# Altium integrated library NSC Switcher.IntLib: 2027 symbols (part 51 of 54)
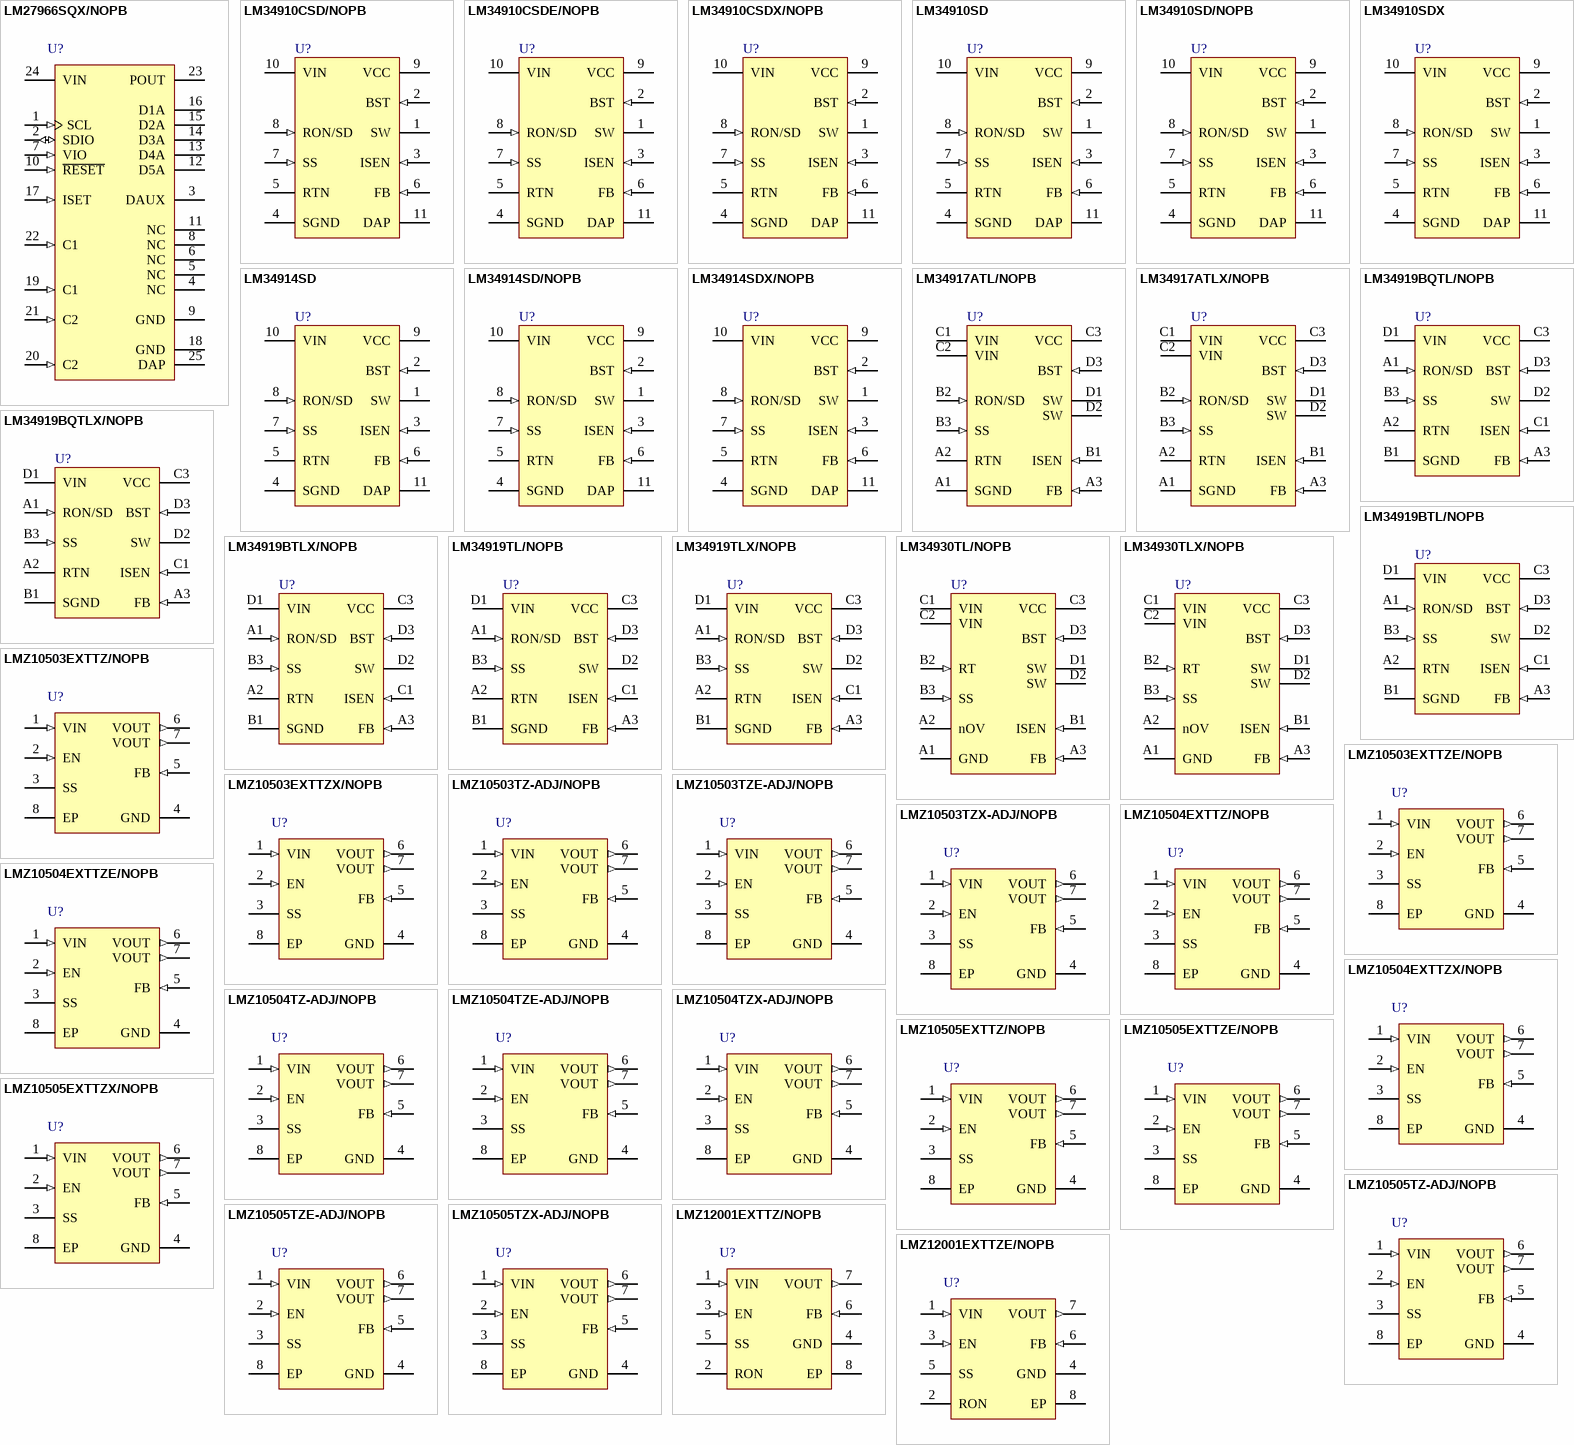
[diagram p113: symbols LM27966SQX/NOPB to LMZ12001EXTTZE/NOPB]

## LMZ10505EXTTZX/NOPB
designator U?
5A SIMPLE SWITCHER® Power Module with 5.5V Maximum Input Voltage for Military and Rugged Applications, 7 pin TO-PMOD; PartNumber: LMZ10505EXTTZX/NOPB; Manufacturer: National Semiconductor; PackageTopMarking: NSUZXYTTE#*LMZ10505*EXT; PowerWise: Y; Published: 16-Nov-2010; DatasheetVersion: Jul-2010; PackageVersion: revC, 2009; PackageReference: TZA07A; Publisher: Altium Limited; PackageDescription: TO-PMOD-7, 10.16 x 13.77 x 4.57 mm Body, 7 Lead, 1.27mm Pitch, Surface Mount; Supplier 1: Digi-Key; Supplier Part Number 1: LMZ10505EXTTZX/NOPB-ND; RoHS: Y; PinCount: 7; CompType: Switcher; ComponentLink1Description: LMZ10505EXT Datasheet; ComponentLink1URL: http://www.national.com/ds/LM/LMZ10505EXT.pdf; ComponentLink2Description: LMZ10505EXT Web Page; ComponentLink2URL: http://www.national.com/pf/LM/LMZ10505EXT.html; ComponentLink3Description: TZA07A Package Page; ComponentLink3URL: http://www.national.com/packaging/folders/tza07a.html
footprint TZA07A_V (D2-PAK, 8-Leads, Body 9.9x10.2mm, Pitch 1.27mm, Lead Span 13.8mm, NSC Recommended)
pins: 1 VIN (in), 2 EN (in), 3 SS, 4 GND (power), 5 FB (in), 6 VOUT (out), 7 VOUT (out), 8 EP

## LMZ10505TZ-ADJ/NOPB
designator U?
5A SIMPLE SWITCHER® Power Module with 5.5V Maximum Input Voltage, 7 pin TO-PMOD; PartNumber: LMZ10505TZ-ADJ/NOPB; Manufacturer: National Semiconductor; PackageTopMarking: NSUZXYTTE#*LMZ10505*TZ-ADJ; PowerWise: Y; Published: 16-Nov-2010; DatasheetVersion: Jun-2010; PackageVersion: revC, 2009; PackageReference: TZA07A; Publisher: Altium Limited; PackageDescription: TO-PMOD-7, 10.16 x 13.77 x 4.57 mm Body, 7 Lead, 1.27mm Pitch, Surface Mount; Supplier 1: Digi-Key; Supplier Part Number 1: LMZ10505TZ-ADJTR-ND; Supplier 2: Digi-Key; Supplier Part Number 2: LMZ10505TZ-ADJCT-ND; Supplier 3: Digi-Key; Supplier Part Number 3: LMZ10505TZ-ADJDKR-ND; Supplier 4: Farnell; Supplier Part Number 4: 1800192; RoHS: Y; PinCount: 7; CompType: Switcher; ComponentLink1Description: LMZ10505 Datasheet; ComponentLink1URL: http://www.national.com/ds/LM/LMZ10505.pdf; ComponentLink2Description: LMZ10505 Web Page; ComponentLink2URL: http://www.national.com/pf/LM/LMZ10505.html; ComponentLink3Description: TZA07A Package Page; ComponentLink3URL: http://www.national.com/packaging/folders/tza07a.html
footprint TZA07A_V (D2-PAK, 8-Leads, Body 9.9x10.2mm, Pitch 1.27mm, Lead Span 13.8mm, NSC Recommended)
pins: 1 VIN (in), 2 EN (in), 3 SS, 4 GND (power), 5 FB (in), 6 VOUT (out), 7 VOUT (out), 8 EP

## LMZ10505TZE-ADJ/NOPB
designator U?
5A SIMPLE SWITCHER® Power Module with 5.5V Maximum Input Voltage, 7 pin TO-PMOD; PartNumber: LMZ10505TZE-ADJ/NOPB; Manufacturer: National Semiconductor; PackageTopMarking: NSUZXYTTE#*LMZ10505*TZ-ADJ; PowerWise: N; Published: 16-Nov-2010; DatasheetVersion: Jun-2010; PackageVersion: revC, 2009; PackageReference: TZA07A; Publisher: Altium Limited; PackageDescription: TO-PMOD-7, 10.16 x 13.77 x 4.57 mm Body, 7 Lead, 1.27mm Pitch, Surface Mount; Supplier 1: Digi-Key; Supplier Part Number 1: LMZ10505TZE-ADJ/NOPB-ND; RoHS: Y; PinCount: 7; CompType: Switcher; ComponentLink1Description: LMZ10505 Datasheet; ComponentLink1URL: http://www.national.com/ds/LM/LMZ10505.pdf; ComponentLink2Description: LMZ10505 Web Page; ComponentLink2URL: http://www.national.com/pf/LM/LMZ10505.html; ComponentLink3Description: TZA07A Package Page; ComponentLink3URL: http://www.national.com/packaging/folders/tza07a.html
footprint TZA07A_V (D2-PAK, 8-Leads, Body 9.9x10.2mm, Pitch 1.27mm, Lead Span 13.8mm, NSC Recommended)
pins: 1 VIN (in), 2 EN (in), 3 SS, 4 GND (power), 5 FB (in), 6 VOUT (out), 7 VOUT (out), 8 EP

## LMZ10505TZX-ADJ/NOPB
designator U?
5A SIMPLE SWITCHER® Power Module with 5.5V Maximum Input Voltage, 7 pin TO-PMOD; PartNumber: LMZ10505TZX-ADJ/NOPB; Manufacturer: National Semiconductor; PackageTopMarking: NSUZXYTTE#*LMZ10505*TZ-ADJ; PowerWise: Y; Published: 16-Nov-2010; DatasheetVersion: Jun-2010; PackageVersion: revC, 2009; PackageReference: TZA07A; Publisher: Altium Limited; PackageDescription: TO-PMOD-7, 10.16 x 13.77 x 4.57 mm Body, 7 Lead, 1.27mm Pitch, Surface Mount; Supplier 1: Digi-Key; Supplier Part Number 1: LMZ10505TZX-ADJ-ND; RoHS: Y; PinCount: 7; CompType: Switcher; ComponentLink1Description: LMZ10505 Datasheet; ComponentLink1URL: http://www.national.com/ds/LM/LMZ10505.pdf; ComponentLink2Description: LMZ10505 Web Page; ComponentLink2URL: http://www.national.com/pf/LM/LMZ10505.html; ComponentLink3Description: TZA07A Package Page; ComponentLink3URL: http://www.national.com/packaging/folders/tza07a.html
footprint TZA07A_V (D2-PAK, 8-Leads, Body 9.9x10.2mm, Pitch 1.27mm, Lead Span 13.8mm, NSC Recommended)
pins: 1 VIN (in), 2 EN (in), 3 SS, 4 GND (power), 5 FB (in), 6 VOUT (out), 7 VOUT (out), 8 EP

## LMZ12001EXTTZ/NOPB
designator U?
1A SIMPLE SWITCHER® Power Module with 20V Maximum Input Voltage for Military and Rugged Applications, 7 pin TO-PMOD; PartNumber: LMZ12001EXTTZ/NOPB; Manufacturer: National Semiconductor; PackageTopMarking: NSUZXYTTE#*LMZ12001*EXT; PowerWise: Y; Published: 16-Nov-2010; DatasheetVersion: Aug-2010; PackageVersion: revC, 2009; PackageReference: TZA07A; Publisher: Altium Limited; PackageDescription: TO-PMOD-7, 10.16 x 13.77 x 4.57 mm Body, 7 Lead, 1.27mm Pitch, Surface Mount; Supplier 1: Digi-Key; Supplier Part Number 1: LMZ12001EXTTZ/NOPBTR-ND; Supplier 2: Digi-Key; Supplier Part Number 2: LMZ12001EXTTZ/NOPBCT-ND; Supplier 3: Digi-Key; Supplier Part Number 3: LMZ12001EXTTZ/NOPBDKR-ND; RoHS: Y; PinCount: 7; CompType: Switcher; ComponentLink1Description: LMZ12001EXT Datasheet; ComponentLink1URL: http://www.national.com/ds/LM/LMZ12001EXT.pdf; ComponentLink2Description: LMZ12001EXT Web Page; ComponentLink2URL: http://www.national.com/pf/LM/LMZ12001EXT.html; ComponentLink3Description: TZA07A Package Page; ComponentLink3URL: http://www.national.com/packaging/folders/tza07a.html
footprint TZA07A_V (D2-PAK, 8-Leads, Body 9.9x10.2mm, Pitch 1.27mm, Lead Span 13.8mm, NSC Recommended)
pins: 1 VIN (in), 2 RON, 3 EN (in), 4 GND (power), 5 SS, 6 FB (in), 7 VOUT (out), 8 EP

## LMZ12001EXTTZE/NOPB
designator U?
1A SIMPLE SWITCHER® Power Module with 20V Maximum Input Voltage for Military and Rugged Applications, 7 pin TO-PMOD; PartNumber: LMZ12001EXTTZE/NOPB; Manufacturer: National Semiconductor; PackageTopMarking: NSUZXYTTE#*LMZ12001*EXT; PowerWise: Y; Published: 16-Nov-2010; DatasheetVersion: Aug-2010; PackageVersion: revC, 2009; PackageReference: TZA07A; Publisher: Altium Limited; PackageDescription: TO-PMOD-7, 10.16 x 13.77 x 4.57 mm Body, 7 Lead, 1.27mm Pitch, Surface Mount; Supplier 1: Digi-Key; Supplier Part Number 1: LMZ12001EXTTZE/NOPB-ND; RoHS: Y; PinCount: 7; CompType: Switcher; ComponentLink1Description: LMZ12001EXT Datasheet; ComponentLink1URL: http://www.national.com/ds/LM/LMZ12001EXT.pdf; ComponentLink2Description: LMZ12001EXT Web Page; ComponentLink2URL: http://www.national.com/pf/LM/LMZ12001EXT.html; ComponentLink3Description: TZA07A Package Page; ComponentLink3URL: http://www.national.com/packaging/folders/tza07a.html
footprint TZA07A_V (D2-PAK, 8-Leads, Body 9.9x10.2mm, Pitch 1.27mm, Lead Span 13.8mm, NSC Recommended)
pins: 1 VIN (in), 2 RON, 3 EN (in), 4 GND (power), 5 SS, 6 FB (in), 7 VOUT (out), 8 EP

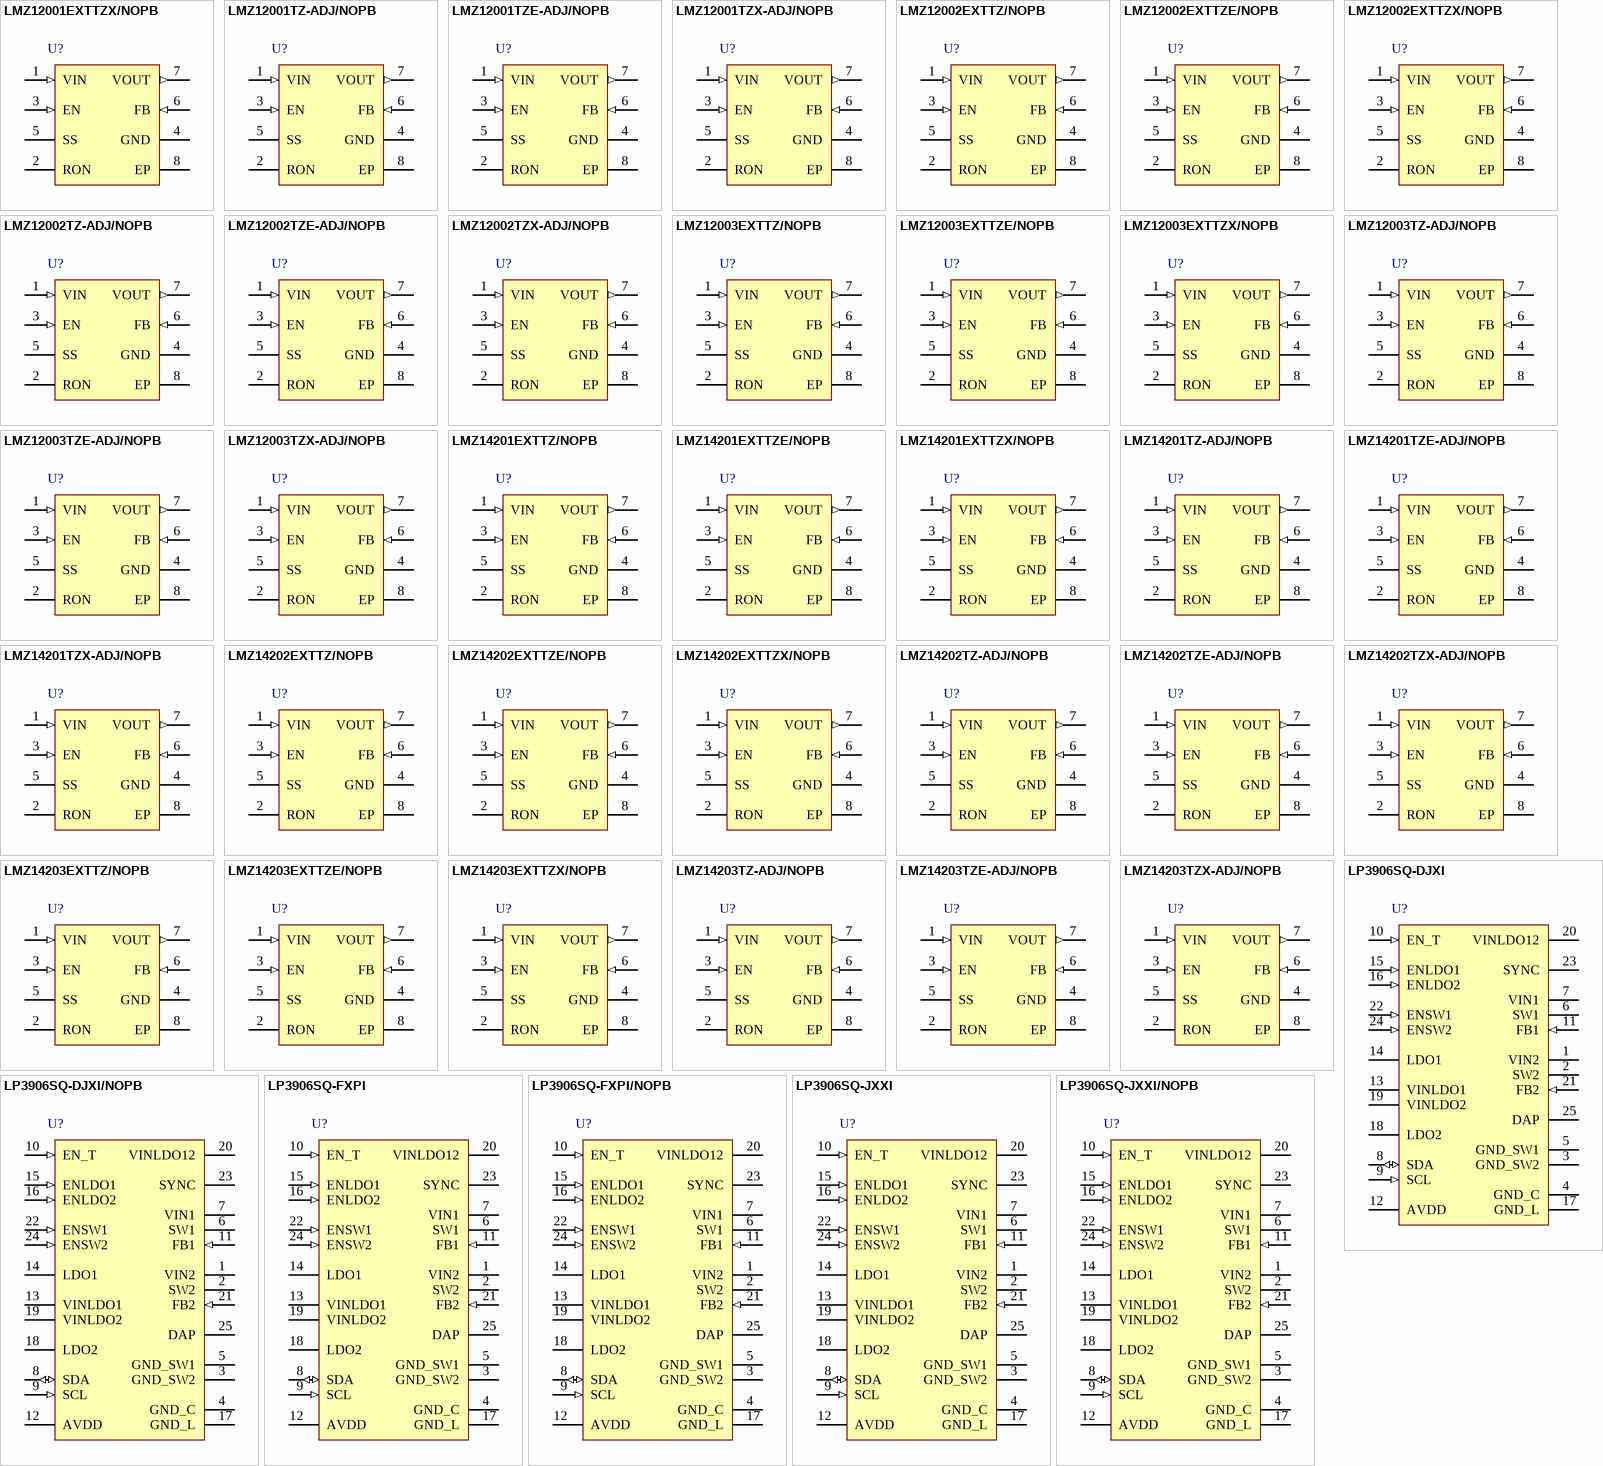
[diagram p58: symbols LMZ12001EXTTZX/NOPB to LP3906SQ-JXXI/NOPB]

## LMZ12001EXTTZX/NOPB
designator U?
1A SIMPLE SWITCHER® Power Module with 20V Maximum Input Voltage for Military and Rugged Applications, 7 pin TO-PMOD; PartNumber: LMZ12001EXTTZX/NOPB; Manufacturer: National Semiconductor; PackageTopMarking: NSUZXYTTE#*LMZ12001*EXT; PowerWise: Y; Published: 16-Nov-2010; DatasheetVersion: Aug-2010; PackageVersion: revC, 2009; PackageReference: TZA07A; Publisher: Altium Limited; PackageDescription: TO-PMOD-7, 10.16 x 13.77 x 4.57 mm Body, 7 Lead, 1.27mm Pitch, Surface Mount; Supplier 1: Digi-Key; Supplier Part Number 1: LMZ12001EXTTZX/NOPB-ND; RoHS: Y; PinCount: 7; CompType: Switcher; ComponentLink1Description: LMZ12001EXT Datasheet; ComponentLink1URL: http://www.national.com/ds/LM/LMZ12001EXT.pdf; ComponentLink2Description: LMZ12001EXT Web Page; ComponentLink2URL: http://www.national.com/pf/LM/LMZ12001EXT.html; ComponentLink3Description: TZA07A Package Page; ComponentLink3URL: http://www.national.com/packaging/folders/tza07a.html
footprint TZA07A_V (D2-PAK, 8-Leads, Body 9.9x10.2mm, Pitch 1.27mm, Lead Span 13.8mm, NSC Recommended)
pins: 1 VIN (in), 2 RON, 3 EN (in), 4 GND (power), 5 SS, 6 FB (in), 7 VOUT (out), 8 EP

## LMZ12001TZ-ADJ/NOPB
designator U?
1A SIMPLE SWITCHER® Power Module with 20V Maximum Input Voltage, 7 pin TO-PMOD; PartNumber: LMZ12001TZ-ADJ/NOPB; Manufacturer: National Semiconductor; PackageTopMarking: NSUZXYTTE#*LMZ12001*TZ-ADJ; PowerWise: Y; Published: 16-Nov-2010; DatasheetVersion: Jun-2010; PackageVersion: revC, 2009; PackageReference: TZA07A; Publisher: Altium Limited; PackageDescription: TO-PMOD-7, 10.16 x 13.77 x 4.57 mm Body, 7 Lead, 1.27mm Pitch, Surface Mount; Supplier 1: Digi-Key; Supplier Part Number 1: LMZ12001TZ-ADJTR-ND; Supplier 2: Digi-Key; Supplier Part Number 2: LMZ12001TZ-ADJCT-ND; Supplier 3: Digi-Key; Supplier Part Number 3: LMZ12001TZ-ADJDKR-ND; RoHS: Y; PinCount: 7; CompType: Switcher; ComponentLink1Description: LMZ12001 Datasheet; ComponentLink1URL: http://www.national.com/ds/LM/LMZ12001.pdf; ComponentLink2Description: LMZ12001 Web Page; ComponentLink2URL: http://www.national.com/pf/LM/LMZ12001.html; ComponentLink3Description: TZA07A Package Page; ComponentLink3URL: http://www.national.com/packaging/folders/tza07a.html
footprint TZA07A_V (D2-PAK, 8-Leads, Body 9.9x10.2mm, Pitch 1.27mm, Lead Span 13.8mm, NSC Recommended)
pins: 1 VIN (in), 2 RON, 3 EN (in), 4 GND (power), 5 SS, 6 FB (in), 7 VOUT (out), 8 EP

## LMZ12001TZE-ADJ/NOPB
designator U?
1A SIMPLE SWITCHER® Power Module with 20V Maximum Input Voltage, 7 pin TO-PMOD; PartNumber: LMZ12001TZE-ADJ/NOPB; Manufacturer: National Semiconductor; PackageTopMarking: NSUZXYTTE#*LMZ12001*TZ-ADJ; PowerWise: N; Published: 16-Nov-2010; DatasheetVersion: Jun-2010; PackageVersion: revC, 2009; PackageReference: TZA07A; Publisher: Altium Limited; PackageDescription: TO-PMOD-7, 10.16 x 13.77 x 4.57 mm Body, 7 Lead, 1.27mm Pitch, Surface Mount; Supplier 1: Digi-Key; Supplier Part Number 1: LMZ12001TZE-ADJ/NOPB-ND; Supplier 2: Farnell; Supplier Part Number 2: 1821760; RoHS: Y; PinCount: 7; CompType: Switcher; ComponentLink1Description: LMZ12001 Datasheet; ComponentLink1URL: http://www.national.com/ds/LM/LMZ12001.pdf; ComponentLink2Description: LMZ12001 Web Page; ComponentLink2URL: http://www.national.com/pf/LM/LMZ12001.html; ComponentLink3Description: TZA07A Package Page; ComponentLink3URL: http://www.national.com/packaging/folders/tza07a.html
footprint TZA07A_V (D2-PAK, 8-Leads, Body 9.9x10.2mm, Pitch 1.27mm, Lead Span 13.8mm, NSC Recommended)
pins: 1 VIN (in), 2 RON, 3 EN (in), 4 GND (power), 5 SS, 6 FB (in), 7 VOUT (out), 8 EP

## LMZ12001TZX-ADJ/NOPB
designator U?
1A SIMPLE SWITCHER® Power Module with 20V Maximum Input Voltage, 7 pin TO-PMOD; PartNumber: LMZ12001TZX-ADJ/NOPB; Manufacturer: National Semiconductor; PackageTopMarking: NSUZXYTTE#*LMZ12001*TZ-ADJ; PowerWise: Y; Published: 16-Nov-2010; DatasheetVersion: Jun-2010; PackageVersion: revC, 2009; PackageReference: TZA07A; Publisher: Altium Limited; PackageDescription: TO-PMOD-7, 10.16 x 13.77 x 4.57 mm Body, 7 Lead, 1.27mm Pitch, Surface Mount; Supplier 1: Digi-Key; Supplier Part Number 1: LMZ12001TZX-ADJ-ND; RoHS: Y; PinCount: 7; CompType: Switcher; ComponentLink1Description: LMZ12001 Datasheet; ComponentLink1URL: http://www.national.com/ds/LM/LMZ12001.pdf; ComponentLink2Description: LMZ12001 Web Page; ComponentLink2URL: http://www.national.com/pf/LM/LMZ12001.html; ComponentLink3Description: TZA07A Package Page; ComponentLink3URL: http://www.national.com/packaging/folders/tza07a.html
footprint TZA07A_V (D2-PAK, 8-Leads, Body 9.9x10.2mm, Pitch 1.27mm, Lead Span 13.8mm, NSC Recommended)
pins: 1 VIN (in), 2 RON, 3 EN (in), 4 GND (power), 5 SS, 6 FB (in), 7 VOUT (out), 8 EP

## LMZ12002EXTTZ/NOPB
designator U?
2A SIMPLE SWITCHER® Power Module with 20V Maximum Input Voltage for Military and Rugged Applications, 7 pin TO-PMOD; PartNumber: LMZ12002EXTTZ/NOPB; Manufacturer: National Semiconductor; PackageTopMarking: NSUZXYTTE#*LMZ12002*EXT; PowerWise: Y; Published: 16-Nov-2010; DatasheetVersion: Aug-2010; PackageVersion: revC, 2009; PackageReference: TZA07A; Publisher: Altium Limited; PackageDescription: TO-PMOD-7, 10.16 x 13.77 x 4.57 mm Body, 7 Lead, 1.27mm Pitch, Surface Mount; Supplier 1: Digi-Key; Supplier Part Number 1: LMZ12002EXTTZ/NOPBTR-ND; Supplier 2: Digi-Key; Supplier Part Number 2: LMZ12002EXTTZ/NOPBCT-ND; Supplier 3: Digi-Key; Supplier Part Number 3: LMZ12002EXTTZ/NOPBDKR-ND; RoHS: Y; PinCount: 7; CompType: Switcher; ComponentLink1Description: LMZ12002EXT Datasheet; ComponentLink1URL: http://www.national.com/ds/LM/LMZ12002EXT.pdf; ComponentLink2Description: LMZ12002EXT Web Page; ComponentLink2URL: http://www.national.com/pf/LM/LMZ12002EXT.html; ComponentLink3Description: TZA07A Package Page; ComponentLink3URL: http://www.national.com/packaging/folders/tza07a.html
footprint TZA07A_V (D2-PAK, 8-Leads, Body 9.9x10.2mm, Pitch 1.27mm, Lead Span 13.8mm, NSC Recommended)
pins: 1 VIN (in), 2 RON, 3 EN (in), 4 GND (power), 5 SS, 6 FB (in), 7 VOUT (out), 8 EP

## LMZ12002EXTTZE/NOPB
designator U?
2A SIMPLE SWITCHER® Power Module with 20V Maximum Input Voltage for Military and Rugged Applications, 7 pin TO-PMOD; PartNumber: LMZ12002EXTTZE/NOPB; Manufacturer: National Semiconductor; PackageTopMarking: NSUZXYTTE#*LMZ12002*EXT; PowerWise: Y; Published: 16-Nov-2010; DatasheetVersion: Aug-2010; PackageVersion: revC, 2009; PackageReference: TZA07A; Publisher: Altium Limited; PackageDescription: TO-PMOD-7, 10.16 x 13.77 x 4.57 mm Body, 7 Lead, 1.27mm Pitch, Surface Mount; Supplier 1: Digi-Key; Supplier Part Number 1: LMZ12002EXTTZE/NOPB-ND; RoHS: Y; PinCount: 7; CompType: Switcher; ComponentLink1Description: LMZ12002EXT Datasheet; ComponentLink1URL: http://www.national.com/ds/LM/LMZ12002EXT.pdf; ComponentLink2Description: LMZ12002EXT Web Page; ComponentLink2URL: http://www.national.com/pf/LM/LMZ12002EXT.html; ComponentLink3Description: TZA07A Package Page; ComponentLink3URL: http://www.national.com/packaging/folders/tza07a.html
footprint TZA07A_V (D2-PAK, 8-Leads, Body 9.9x10.2mm, Pitch 1.27mm, Lead Span 13.8mm, NSC Recommended)
pins: 1 VIN (in), 2 RON, 3 EN (in), 4 GND (power), 5 SS, 6 FB (in), 7 VOUT (out), 8 EP

## LMZ12002EXTTZX/NOPB
designator U?
2A SIMPLE SWITCHER® Power Module with 20V Maximum Input Voltage for Military and Rugged Applications, 7 pin TO-PMOD; PartNumber: LMZ12002EXTTZX/NOPB; Manufacturer: National Semiconductor; PackageTopMarking: NSUZXYTTE#*LMZ12002*EXT; PowerWise: Y; Published: 16-Nov-2010; DatasheetVersion: Aug-2010; PackageVersion: revC, 2009; PackageReference: TZA07A; Publisher: Altium Limited; PackageDescription: TO-PMOD-7, 10.16 x 13.77 x 4.57 mm Body, 7 Lead, 1.27mm Pitch, Surface Mount; Supplier 1: Digi-Key; Supplier Part Number 1: LMZ12002EXTTZX/NOPB-ND; RoHS: Y; PinCount: 7; CompType: Switcher; ComponentLink1Description: LMZ12002EXT Datasheet; ComponentLink1URL: http://www.national.com/ds/LM/LMZ12002EXT.pdf; ComponentLink2Description: LMZ12002EXT Web Page; ComponentLink2URL: http://www.national.com/pf/LM/LMZ12002EXT.html; ComponentLink3Description: TZA07A Package Page; ComponentLink3URL: http://www.national.com/packaging/folders/tza07a.html
footprint TZA07A_V (D2-PAK, 8-Leads, Body 9.9x10.2mm, Pitch 1.27mm, Lead Span 13.8mm, NSC Recommended)
pins: 1 VIN (in), 2 RON, 3 EN (in), 4 GND (power), 5 SS, 6 FB (in), 7 VOUT (out), 8 EP

## LMZ12002TZ-ADJ/NOPB
designator U?
2A SIMPLE SWITCHER® Power Module with 20V Maximum Input Voltage, 7 pin TO-PMOD; PartNumber: LMZ12002TZ-ADJ/NOPB; Manufacturer: National Semiconductor; PackageTopMarking: NSUZXYTTE#*LMZ12002*TZ-ADJ; PowerWise: Y; Published: 16-Nov-2010; DatasheetVersion: Jun-2010; PackageVersion: revC, 2009; PackageReference: TZA07A; Publisher: Altium Limited; PackageDescription: TO-PMOD-7, 10.16 x 13.77 x 4.57 mm Body, 7 Lead, 1.27mm Pitch, Surface Mount; Supplier 1: Digi-Key; Supplier Part Number 1: LMZ12002TZ-ADJTR-ND; Supplier 2: Digi-Key; Supplier Part Number 2: LMZ12002TZ-ADJCT-ND; Supplier 3: Digi-Key; Supplier Part Number 3: LMZ12002TZ-ADJDKR-ND; RoHS: Y; PinCount: 7; CompType: Switcher; ComponentLink1Description: LMZ12002 Datasheet; ComponentLink1URL: http://www.national.com/ds/LM/LMZ12002.pdf; ComponentLink2Description: LMZ12002 Web Page; ComponentLink2URL: http://www.national.com/pf/LM/LMZ12002.html; ComponentLink3Description: TZA07A Package Page; ComponentLink3URL: http://www.national.com/packaging/folders/tza07a.html
footprint TZA07A_V (D2-PAK, 8-Leads, Body 9.9x10.2mm, Pitch 1.27mm, Lead Span 13.8mm, NSC Recommended)
pins: 1 VIN (in), 2 RON, 3 EN (in), 4 GND (power), 5 SS, 6 FB (in), 7 VOUT (out), 8 EP

## LMZ12002TZE-ADJ/NOPB
designator U?
2A SIMPLE SWITCHER® Power Module with 20V Maximum Input Voltage, 7 pin TO-PMOD; PartNumber: LMZ12002TZE-ADJ/NOPB; Manufacturer: National Semiconductor; PackageTopMarking: NSUZXYTTE#*LMZ12002*TZ-ADJ; PowerWise: N; Published: 16-Nov-2010; DatasheetVersion: Jun-2010; PackageVersion: revC, 2009; PackageReference: TZA07A; Publisher: Altium Limited; PackageDescription: TO-PMOD-7, 10.16 x 13.77 x 4.57 mm Body, 7 Lead, 1.27mm Pitch, Surface Mount; Supplier 1: Digi-Key; Supplier Part Number 1: LMZ12002TZE-ADJ/NOPB-ND; Supplier 2: Farnell; Supplier Part Number 2: 1821761; RoHS: Y; PinCount: 7; CompType: Switcher; ComponentLink1Description: LMZ12002 Datasheet; ComponentLink1URL: http://www.national.com/ds/LM/LMZ12002.pdf; ComponentLink2Description: LMZ12002 Web Page; ComponentLink2URL: http://www.national.com/pf/LM/LMZ12002.html; ComponentLink3Description: TZA07A Package Page; ComponentLink3URL: http://www.national.com/packaging/folders/tza07a.html
footprint TZA07A_V (D2-PAK, 8-Leads, Body 9.9x10.2mm, Pitch 1.27mm, Lead Span 13.8mm, NSC Recommended)
pins: 1 VIN (in), 2 RON, 3 EN (in), 4 GND (power), 5 SS, 6 FB (in), 7 VOUT (out), 8 EP

## LMZ12002TZX-ADJ/NOPB
designator U?
2A SIMPLE SWITCHER® Power Module with 20V Maximum Input Voltage, 7 pin TO-PMOD; PartNumber: LMZ12002TZX-ADJ/NOPB; Manufacturer: National Semiconductor; PackageTopMarking: NSUZXYTTE#*LMZ12002*TZ-ADJ; PowerWise: Y; Published: 16-Nov-2010; DatasheetVersion: Jun-2010; PackageVersion: revC, 2009; PackageReference: TZA07A; Publisher: Altium Limited; PackageDescription: TO-PMOD-7, 10.16 x 13.77 x 4.57 mm Body, 7 Lead, 1.27mm Pitch, Surface Mount; Supplier 1: Digi-Key; Supplier Part Number 1: LMZ12002TZX-ADJ-ND; RoHS: Y; PinCount: 7; CompType: Switcher; ComponentLink1Description: LMZ12002 Datasheet; ComponentLink1URL: http://www.national.com/ds/LM/LMZ12002.pdf; ComponentLink2Description: LMZ12002 Web Page; ComponentLink2URL: http://www.national.com/pf/LM/LMZ12002.html; ComponentLink3Description: TZA07A Package Page; ComponentLink3URL: http://www.national.com/packaging/folders/tza07a.html
footprint TZA07A_V (D2-PAK, 8-Leads, Body 9.9x10.2mm, Pitch 1.27mm, Lead Span 13.8mm, NSC Recommended)
pins: 1 VIN (in), 2 RON, 3 EN (in), 4 GND (power), 5 SS, 6 FB (in), 7 VOUT (out), 8 EP

## LMZ12003EXTTZ/NOPB
designator U?
3A SIMPLE SWITCHER® Power Module with 20V Maximum Input Voltage for Military and Rugged Applications, 7 pin TO-PMOD; PartNumber: LMZ12003EXTTZ/NOPB; Manufacturer: National Semiconductor; PackageTopMarking: NSUZXYTTE#*LMZ12003*EXT; PowerWise: Y; Published: 16-Nov-2010; DatasheetVersion: Aug-2010; PackageVersion: revC, 2009; PackageReference: TZA07A; Publisher: Altium Limited; PackageDescription: TO-PMOD-7, 10.16 x 13.77 x 4.57 mm Body, 7 Lead, 1.27mm Pitch, Surface Mount; Supplier 1: Digi-Key; Supplier Part Number 1: LMZ12003EXTTZ/NOPBTR-ND; Supplier 2: Digi-Key; Supplier Part Number 2: LMZ12003EXTTZ/NOPBCT-ND; Supplier 3: Digi-Key; Supplier Part Number 3: LMZ12003EXTTZ/NOPBDKR-ND; RoHS: Y; PinCount: 7; CompType: Switcher; ComponentLink1Description: LMZ12003EXT Datasheet; ComponentLink1URL: http://www.national.com/ds/LM/LMZ12003EXT.pdf; ComponentLink2Description: LMZ12003EXT Web Page; ComponentLink2URL: http://www.national.com/pf/LM/LMZ12003EXT.html; ComponentLink3Description: TZA07A Package Page; ComponentLink3URL: http://www.national.com/packaging/folders/tza07a.html
footprint TZA07A_V (D2-PAK, 8-Leads, Body 9.9x10.2mm, Pitch 1.27mm, Lead Span 13.8mm, NSC Recommended)
pins: 1 VIN (in), 2 RON, 3 EN (in), 4 GND (power), 5 SS, 6 FB (in), 7 VOUT (out), 8 EP

## LMZ12003EXTTZE/NOPB
designator U?
3A SIMPLE SWITCHER® Power Module with 20V Maximum Input Voltage for Military and Rugged Applications, 7 pin TO-PMOD; PartNumber: LMZ12003EXTTZE/NOPB; Manufacturer: National Semiconductor; PackageTopMarking: NSUZXYTTE#*LMZ12003*EXT; PowerWise: Y; Published: 16-Nov-2010; DatasheetVersion: Aug-2010; PackageVersion: revC, 2009; PackageReference: TZA07A; Publisher: Altium Limited; PackageDescription: TO-PMOD-7, 10.16 x 13.77 x 4.57 mm Body, 7 Lead, 1.27mm Pitch, Surface Mount; Supplier 1: Digi-Key; Supplier Part Number 1: LMZ12003EXTTZE/NOPB-ND; RoHS: Y; PinCount: 7; CompType: Switcher; ComponentLink1Description: LMZ12003EXT Datasheet; ComponentLink1URL: http://www.national.com/ds/LM/LMZ12003EXT.pdf; ComponentLink2Description: LMZ12003EXT Web Page; ComponentLink2URL: http://www.national.com/pf/LM/LMZ12003EXT.html; ComponentLink3Description: TZA07A Package Page; ComponentLink3URL: http://www.national.com/packaging/folders/tza07a.html
footprint TZA07A_V (D2-PAK, 8-Leads, Body 9.9x10.2mm, Pitch 1.27mm, Lead Span 13.8mm, NSC Recommended)
pins: 1 VIN (in), 2 RON, 3 EN (in), 4 GND (power), 5 SS, 6 FB (in), 7 VOUT (out), 8 EP

## LMZ12003EXTTZX/NOPB
designator U?
3A SIMPLE SWITCHER® Power Module with 20V Maximum Input Voltage for Military and Rugged Applications, 7 pin TO-PMOD; PartNumber: LMZ12003EXTTZX/NOPB; Manufacturer: National Semiconductor; PackageTopMarking: NSUZXYTTE#*LMZ12003*EXT; PowerWise: Y; Published: 16-Nov-2010; DatasheetVersion: Aug-2010; PackageVersion: revC, 2009; PackageReference: TZA07A; Publisher: Altium Limited; PackageDescription: TO-PMOD-7, 10.16 x 13.77 x 4.57 mm Body, 7 Lead, 1.27mm Pitch, Surface Mount; RoHS: Y; PinCount: 7; CompType: Switcher; ComponentLink1Description: LMZ12003EXT Datasheet; ComponentLink1URL: http://www.national.com/ds/LM/LMZ12003EXT.pdf; ComponentLink2Description: LMZ12003EXT Web Page; ComponentLink2URL: http://www.national.com/pf/LM/LMZ12003EXT.html; ComponentLink3Description: TZA07A Package Page; ComponentLink3URL: http://www.national.com/packaging/folders/tza07a.html
footprint TZA07A_V (D2-PAK, 8-Leads, Body 9.9x10.2mm, Pitch 1.27mm, Lead Span 13.8mm, NSC Recommended)
pins: 1 VIN (in), 2 RON, 3 EN (in), 4 GND (power), 5 SS, 6 FB (in), 7 VOUT (out), 8 EP

## LMZ12003TZ-ADJ/NOPB
designator U?
3A SIMPLE SWITCHER® Power Module with 20V Maximum Input Voltage, 7-pin TO-PMOD, Pb-Free; PartNumber: LMZ12003TZ-ADJ/NOPB; Manufacturer: National Semiconductor; PackageTopMarking: NSUZXYTTE#*LMZ12003*TZ-ADJ; PowerWise: Y; Published: 25-Jan-2010; DatasheetVersion: Jan-2010; PackageVersion: revC, 2009; PackageReference: TZA07A; Publisher: Altium Limited; PackageDescription: TO-PMOD-7, 10.16 x 13.77 x 4.57 mm Body, 7 Lead, 1.27mm Pitch, Surface Mount; Supplier 1: Digi-Key; Supplier Part Number 1: LMZ12003TZ-ADJTR-ND; Supplier 2: Digi-Key; Supplier Part Number 2: LMZ12003TZ-ADJCT-ND; Supplier 3: Digi-Key; Supplier Part Number 3: LMZ12003TZ-ADJDKR-ND; Supplier 4: Farnell; Supplier Part Number 4: 1780283; RoHS: Y; PinCount: 8; CompType: Switcher; ComponentLink1Description: LMZ12003 Datasheet; ComponentLink1URL: http://www.national.com/ds/LM/LMZ12003.pdf; ComponentLink2Description: LMZ12003 Web Page; ComponentLink2URL: http://www.national.com/pf/LM/LMZ12003.html; ComponentLink3Description: TZA07A Package Page; ComponentLink3URL: http://www.national.com/packaging/folders/tza07a.html
footprint TZA07A_V (D2-PAK, 8-Leads, Body 9.9x10.2mm, Pitch 1.27mm, Lead Span 13.8mm, NSC Recommended)
pins: 1 VIN (in), 2 RON, 3 EN (in), 4 GND (power), 5 SS, 6 FB (in), 7 VOUT (out), 8 EP

## LMZ12003TZE-ADJ/NOPB
designator U?
3A SIMPLE SWITCHER® Power Module with 20V Maximum Input Voltage, 7 pin TO-PMOD, Pb-Free; PartNumber: LMZ12003TZE-ADJ/NOPB; Manufacturer: National Semiconductor; PackageTopMarking: NSUZXYTTE#*LMZ12003*TZ-ADJ; PowerWise: N; Published: 1-Mar-2010; DatasheetVersion: Jan-2010; PackageVersion: revC, 2009; PackageReference: TZA07A; Publisher: Altium Limited; PackageDescription: TO-PMOD-7, 10.16 x 13.77 x 4.57 mm Body, 7 Lead, 1.27mm Pitch, Surface Mount; Supplier 1: Digi-Key; Supplier Part Number 1: LMZ12003TZE-ADJ/NOPB-ND; RoHS: Y; PinCount: 7; CompType: Switcher; ComponentLink1Description: LMZ12003 Datasheet; ComponentLink1URL: http://www.national.com/ds/LM/LMZ12003.pdf; ComponentLink2Description: LMZ12003 Web Page; ComponentLink2URL: http://www.national.com/pf/LM/LMZ12003.html; ComponentLink3Description: TZA07A Package Page; ComponentLink3URL: http://www.national.com/packaging/folders/tza07a.html
footprint TZA07A_V (D2-PAK, 8-Leads, Body 9.9x10.2mm, Pitch 1.27mm, Lead Span 13.8mm, NSC Recommended)
pins: 1 VIN (in), 2 RON, 3 EN (in), 4 GND (power), 5 SS, 6 FB (in), 7 VOUT (out), 8 EP

## LMZ12003TZX-ADJ/NOPB
designator U?
3A SIMPLE SWITCHER® Power Module with 20V Maximum Input Voltage, 7-pin TO-PMOD, Pb-Free; PartNumber: LMZ12003TZX-ADJ/NOPB; Manufacturer: National Semiconductor; PackageTopMarking: NSUZXYTTE#*LMZ12003*TZ-ADJ; PowerWise: Y; Published: 25-Jan-2010; DatasheetVersion: Jan-2010; PackageVersion: revC, 2009; PackageReference: TZA07A; Publisher: Altium Limited; PackageDescription: TO-PMOD-7, 10.16 x 13.77 x 4.57 mm Body, 7 Lead, 1.27mm Pitch, Surface Mount; Supplier 1: Digi-Key; Supplier Part Number 1: LMZ12003TZX-ADJ-ND; Supplier 2: Farnell; Supplier Part Number 2: 1780284; RoHS: Y; PinCount: 8; CompType: Switcher; ComponentLink1Description: LMZ12003 Datasheet; ComponentLink1URL: http://www.national.com/ds/LM/LMZ12003.pdf; ComponentLink2Description: LMZ12003 Web Page; ComponentLink2URL: http://www.national.com/pf/LM/LMZ12003.html; ComponentLink3Description: TZA07A Package Page; ComponentLink3URL: http://www.national.com/packaging/folders/tza07a.html
footprint TZA07A_V (D2-PAK, 8-Leads, Body 9.9x10.2mm, Pitch 1.27mm, Lead Span 13.8mm, NSC Recommended)
pins: 1 VIN (in), 2 RON, 3 EN (in), 4 GND (power), 5 SS, 6 FB (in), 7 VOUT (out), 8 EP

## LMZ14201EXTTZ/NOPB
designator U?
1A SIMPLE SWITCHER® Power Module with 42V Maximum Input Voltage for Military and Rugged Applications, 7 pin TO-PMOD; PartNumber: LMZ14201EXTTZ/NOPB; Manufacturer: National Semiconductor; PackageTopMarking: NSUZXYTTE#*LMZ14201*EXT; PowerWise: Y; Published: 16-Nov-2010; DatasheetVersion: Aug-2010; PackageVersion: revC, 2009; PackageReference: TZA07A; Publisher: Altium Limited; PackageDescription: TO-PMOD-7, 10.16 x 13.77 x 4.57 mm Body, 7 Lead, 1.27mm Pitch, Surface Mount; Supplier 1: Digi-Key; Supplier Part Number 1: LMZ14201EXTTZ/NOPBTR-ND; Supplier 2: Digi-Key; Supplier Part Number 2: LMZ14201EXTTZ/NOPBCT-ND; Supplier 3: Digi-Key; Supplier Part Number 3: LMZ14201EXTTZ/NOPBDKR-ND; RoHS: Y; PinCount: 7; CompType: Switcher; ComponentLink1Description: LMZ14201EXT Datasheet; ComponentLink1URL: http://www.national.com/ds/LM/LMZ14201EXT.pdf; ComponentLink2Description: LMZ14201EXT Web Page; ComponentLink2URL: http://www.national.com/pf/LM/LMZ14201EXT.html; ComponentLink3Description: TZA07A Package Page; ComponentLink3URL: http://www.national.com/packaging/folders/tza07a.html
footprint TZA07A_V (D2-PAK, 8-Leads, Body 9.9x10.2mm, Pitch 1.27mm, Lead Span 13.8mm, NSC Recommended)
pins: 1 VIN (in), 2 RON, 3 EN (in), 4 GND (power), 5 SS, 6 FB (in), 7 VOUT (out), 8 EP

## LMZ14201EXTTZE/NOPB
designator U?
1A SIMPLE SWITCHER® Power Module with 42V Maximum Input Voltage for Military and Rugged Applications, 7 pin TO-PMOD; PartNumber: LMZ14201EXTTZE/NOPB; Manufacturer: National Semiconductor; PackageTopMarking: NSUZXYTTE#*LMZ14201*EXT; PowerWise: Y; Published: 16-Nov-2010; DatasheetVersion: Aug-2010; PackageVersion: revC, 2009; PackageReference: TZA07A; Publisher: Altium Limited; PackageDescription: TO-PMOD-7, 10.16 x 13.77 x 4.57 mm Body, 7 Lead, 1.27mm Pitch, Surface Mount; Supplier 1: Digi-Key; Supplier Part Number 1: LMZ14201EXTTZE/NOPB-ND; RoHS: Y; PinCount: 7; CompType: Switcher; ComponentLink1Description: LMZ14201EXT Datasheet; ComponentLink1URL: http://www.national.com/ds/LM/LMZ14201EXT.pdf; ComponentLink2Description: LMZ14201EXT Web Page; ComponentLink2URL: http://www.national.com/pf/LM/LMZ14201EXT.html; ComponentLink3Description: TZA07A Package Page; ComponentLink3URL: http://www.national.com/packaging/folders/tza07a.html
footprint TZA07A_V (D2-PAK, 8-Leads, Body 9.9x10.2mm, Pitch 1.27mm, Lead Span 13.8mm, NSC Recommended)
pins: 1 VIN (in), 2 RON, 3 EN (in), 4 GND (power), 5 SS, 6 FB (in), 7 VOUT (out), 8 EP

## LMZ14201EXTTZX/NOPB
designator U?
1A SIMPLE SWITCHER® Power Module with 42V Maximum Input Voltage for Military and Rugged Applications, 7 pin TO-PMOD; PartNumber: LMZ14201EXTTZX/NOPB; Manufacturer: National Semiconductor; PackageTopMarking: NSUZXYTTE#*LMZ14201*EXT; PowerWise: Y; Published: 16-Nov-2010; DatasheetVersion: Aug-2010; PackageVersion: revC, 2009; PackageReference: TZA07A; Publisher: Altium Limited; PackageDescription: TO-PMOD-7, 10.16 x 13.77 x 4.57 mm Body, 7 Lead, 1.27mm Pitch, Surface Mount; Supplier 1: Digi-Key; Supplier Part Number 1: LMZ14201EXTTZX/NOPB-ND; RoHS: Y; PinCount: 7; CompType: Switcher; ComponentLink1Description: LMZ14201EXT Datasheet; ComponentLink1URL: http://www.national.com/ds/LM/LMZ14201EXT.pdf; ComponentLink2Description: LMZ14201EXT Web Page; ComponentLink2URL: http://www.national.com/pf/LM/LMZ14201EXT.html; ComponentLink3Description: TZA07A Package Page; ComponentLink3URL: http://www.national.com/packaging/folders/tza07a.html
footprint TZA07A_V (D2-PAK, 8-Leads, Body 9.9x10.2mm, Pitch 1.27mm, Lead Span 13.8mm, NSC Recommended)
pins: 1 VIN (in), 2 RON, 3 EN (in), 4 GND (power), 5 SS, 6 FB (in), 7 VOUT (out), 8 EP

## LMZ14201TZ-ADJ/NOPB
designator U?
1A SIMPLE SWITCHER® Power Module with 42V Maximum Input, 7 pin TO-PMOD; PartNumber: LMZ14201TZ-ADJ/NOPB; Manufacturer: National Semiconductor; PackageTopMarking: NSUZXYTTE#*LMZ14201*TZ-ADJ; PowerWise: Y; Published: 16-Nov-2010; DatasheetVersion: Jun-2010; PackageVersion: revC, 2009; PackageReference: TZA07A; Publisher: Altium Limited; PackageDescription: TO-PMOD-7, 10.16 x 13.77 x 4.57 mm Body, 7 Lead, 1.27mm Pitch, Surface Mount; Supplier 1: Digi-Key; Supplier Part Number 1: LMZ14201TZ-ADJTR-ND; Supplier 2: Digi-Key; Supplier Part Number 2: LMZ14201TZ-ADJCT-ND; Supplier 3: Digi-Key; Supplier Part Number 3: LMZ14201TZ-ADJDKR-ND; RoHS: Y; PinCount: 7; CompType: Switcher; ComponentLink1Description: LMZ14201 Datasheet; ComponentLink1URL: http://www.national.com/ds/LM/LMZ14201.pdf; ComponentLink2Description: LMZ14201 Web Page; ComponentLink2URL: http://www.national.com/pf/LM/LMZ14201.html; ComponentLink3Description: TZA07A Package Page; ComponentLink3URL: http://www.national.com/packaging/folders/tza07a.html
footprint TZA07A_V (D2-PAK, 8-Leads, Body 9.9x10.2mm, Pitch 1.27mm, Lead Span 13.8mm, NSC Recommended)
pins: 1 VIN (in), 2 RON, 3 EN (in), 4 GND (power), 5 SS, 6 FB (in), 7 VOUT (out), 8 EP

## LMZ14201TZE-ADJ/NOPB
designator U?
1A SIMPLE SWITCHER® Power Module with 42V Maximum Input, 7 pin TO-PMOD; PartNumber: LMZ14201TZE-ADJ/NOPB; Manufacturer: National Semiconductor; PackageTopMarking: NSUZXYTTE#*LMZ14201*TZ-ADJ; PowerWise: N; Published: 16-Nov-2010; DatasheetVersion: Jun-2010; PackageVersion: revC, 2009; PackageReference: TZA07A; Publisher: Altium Limited; PackageDescription: TO-PMOD-7, 10.16 x 13.77 x 4.57 mm Body, 7 Lead, 1.27mm Pitch, Surface Mount; Supplier 1: Digi-Key; Supplier Part Number 1: LMZ14201TZE-ADJ/NOPB-ND; RoHS: Y; PinCount: 7; CompType: Switcher; ComponentLink1Description: LMZ14201 Datasheet; ComponentLink1URL: http://www.national.com/ds/LM/LMZ14201.pdf; ComponentLink2Description: LMZ14201 Web Page; ComponentLink2URL: http://www.national.com/pf/LM/LMZ14201.html; ComponentLink3Description: TZA07A Package Page; ComponentLink3URL: http://www.national.com/packaging/folders/tza07a.html
footprint TZA07A_V (D2-PAK, 8-Leads, Body 9.9x10.2mm, Pitch 1.27mm, Lead Span 13.8mm, NSC Recommended)
pins: 1 VIN (in), 2 RON, 3 EN (in), 4 GND (power), 5 SS, 6 FB (in), 7 VOUT (out), 8 EP

## LMZ14201TZX-ADJ/NOPB
designator U?
1A SIMPLE SWITCHER® Power Module with 42V Maximum Input, 7 pin TO-PMOD; PartNumber: LMZ14201TZX-ADJ/NOPB; Manufacturer: National Semiconductor; PackageTopMarking: NSUZXYTTE#*LMZ14201*TZ-ADJ; PowerWise: Y; Published: 16-Nov-2010; DatasheetVersion: Jun-2010; PackageVersion: revC, 2009; PackageReference: TZA07A; Publisher: Altium Limited; PackageDescription: TO-PMOD-7, 10.16 x 13.77 x 4.57 mm Body, 7 Lead, 1.27mm Pitch, Surface Mount; Supplier 1: Digi-Key; Supplier Part Number 1: LMZ14201TZX-ADJ-ND; RoHS: Y; PinCount: 7; CompType: Switcher; ComponentLink1Description: LMZ14201 Datasheet; ComponentLink1URL: http://www.national.com/ds/LM/LMZ14201.pdf; ComponentLink2Description: LMZ14201 Web Page; ComponentLink2URL: http://www.national.com/pf/LM/LMZ14201.html; ComponentLink3Description: TZA07A Package Page; ComponentLink3URL: http://www.national.com/packaging/folders/tza07a.html
footprint TZA07A_V (D2-PAK, 8-Leads, Body 9.9x10.2mm, Pitch 1.27mm, Lead Span 13.8mm, NSC Recommended)
pins: 1 VIN (in), 2 RON, 3 EN (in), 4 GND (power), 5 SS, 6 FB (in), 7 VOUT (out), 8 EP

## LMZ14202EXTTZ/NOPB
designator U?
2A SIMPLE SWITCHER® Power Module with 42V Maximum Input Voltage for Military and Rugged Applications, 7 pin TO-PMOD; PartNumber: LMZ14202EXTTZ/NOPB; Manufacturer: National Semiconductor; PackageTopMarking: NSUZXYTTE#*LMZ14202*EXT; PowerWise: Y; Published: 16-Nov-2010; DatasheetVersion: Aug-2010; PackageVersion: revC, 2009; PackageReference: TZA07A; Publisher: Altium Limited; PackageDescription: TO-PMOD-7, 10.16 x 13.77 x 4.57 mm Body, 7 Lead, 1.27mm Pitch, Surface Mount; Supplier 1: Digi-Key; Supplier Part Number 1: LMZ14202EXTTZ/NOPBTR-ND; Supplier 2: Digi-Key; Supplier Part Number 2: LMZ14202EXTTZ/NOPBCT-ND; Supplier 3: Digi-Key; Supplier Part Number 3: LMZ14202EXTTZ/NOPBDKR-ND; RoHS: Y; PinCount: 7; CompType: Switcher; ComponentLink1Description: LMZ14202EXT Datasheet; ComponentLink1URL: http://www.national.com/ds/LM/LMZ14202EXT.pdf; ComponentLink2Description: LMZ14202EXT Web Page; ComponentLink2URL: http://www.national.com/pf/LM/LMZ14202EXT.html; ComponentLink3Description: TZA07A Package Page; ComponentLink3URL: http://www.national.com/packaging/folders/tza07a.html
footprint TZA07A_V (D2-PAK, 8-Leads, Body 9.9x10.2mm, Pitch 1.27mm, Lead Span 13.8mm, NSC Recommended)
pins: 1 VIN (in), 2 RON, 3 EN (in), 4 GND (power), 5 SS, 6 FB (in), 7 VOUT (out), 8 EP

## LMZ14202EXTTZE/NOPB
designator U?
2A SIMPLE SWITCHER® Power Module with 42V Maximum Input Voltage for Military and Rugged Applications, 7 pin TO-PMOD; PartNumber: LMZ14202EXTTZE/NOPB; Manufacturer: National Semiconductor; PackageTopMarking: NSUZXYTTE#*LMZ14202*EXT; PowerWise: Y; Published: 16-Nov-2010; DatasheetVersion: Aug-2010; PackageVersion: revC, 2009; PackageReference: TZA07A; Publisher: Altium Limited; PackageDescription: TO-PMOD-7, 10.16 x 13.77 x 4.57 mm Body, 7 Lead, 1.27mm Pitch, Surface Mount; Supplier 1: Digi-Key; Supplier Part Number 1: LMZ14202EXTTZE/NOPB-ND; RoHS: Y; PinCount: 7; CompType: Switcher; ComponentLink1Description: LMZ14202EXT Datasheet; ComponentLink1URL: http://www.national.com/ds/LM/LMZ14202EXT.pdf; ComponentLink2Description: LMZ14202EXT Web Page; ComponentLink2URL: http://www.national.com/pf/LM/LMZ14202EXT.html; ComponentLink3Description: TZA07A Package Page; ComponentLink3URL: http://www.national.com/packaging/folders/tza07a.html
footprint TZA07A_V (D2-PAK, 8-Leads, Body 9.9x10.2mm, Pitch 1.27mm, Lead Span 13.8mm, NSC Recommended)
pins: 1 VIN (in), 2 RON, 3 EN (in), 4 GND (power), 5 SS, 6 FB (in), 7 VOUT (out), 8 EP

## LMZ14202EXTTZX/NOPB
designator U?
2A SIMPLE SWITCHER® Power Module with 42V Maximum Input Voltage for Military and Rugged Applications, 7 pin TO-PMOD; PartNumber: LMZ14202EXTTZX/NOPB; Manufacturer: National Semiconductor; PackageTopMarking: NSUZXYTTE#*LMZ14202*EXT; PowerWise: Y; Published: 16-Nov-2010; DatasheetVersion: Aug-2010; PackageVersion: revC, 2009; PackageReference: TZA07A; Publisher: Altium Limited; PackageDescription: TO-PMOD-7, 10.16 x 13.77 x 4.57 mm Body, 7 Lead, 1.27mm Pitch, Surface Mount; Supplier 1: Digi-Key; Supplier Part Number 1: LMZ14202EXTTZX/NOPB-ND; RoHS: Y; PinCount: 7; CompType: Switcher; ComponentLink1Description: LMZ14202EXT Datasheet; ComponentLink1URL: http://www.national.com/ds/LM/LMZ14202EXT.pdf; ComponentLink2Description: LMZ14202EXT Web Page; ComponentLink2URL: http://www.national.com/pf/LM/LMZ14202EXT.html; ComponentLink3Description: TZA07A Package Page; ComponentLink3URL: http://www.national.com/packaging/folders/tza07a.html
footprint TZA07A_V (D2-PAK, 8-Leads, Body 9.9x10.2mm, Pitch 1.27mm, Lead Span 13.8mm, NSC Recommended)
pins: 1 VIN (in), 2 RON, 3 EN (in), 4 GND (power), 5 SS, 6 FB (in), 7 VOUT (out), 8 EP

## LMZ14202TZ-ADJ/NOPB
designator U?
2A SIMPLE SWITCHER® Power Module with 42V Maximum Input, 7 pin TO-PMOD; PartNumber: LMZ14202TZ-ADJ/NOPB; Manufacturer: National Semiconductor; PackageTopMarking: NSUZXYTTE#*LMZ14202*TZ-ADJ; PowerWise: Y; Published: 16-Nov-2010; DatasheetVersion: Jun-2010; PackageVersion: revC, 2009; PackageReference: TZA07A; Publisher: Altium Limited; PackageDescription: TO-PMOD-7, 10.16 x 13.77 x 4.57 mm Body, 7 Lead, 1.27mm Pitch, Surface Mount; Supplier 1: Digi-Key; Supplier Part Number 1: LMZ14202TZ-ADJTR-ND; Supplier 2: Digi-Key; Supplier Part Number 2: LMZ14202TZ-ADJCT-ND; Supplier 3: Digi-Key; Supplier Part Number 3: LMZ14202TZ-ADJDKR-ND; RoHS: Y; PinCount: 7; CompType: Switcher; ComponentLink1Description: LMZ14202 Datasheet; ComponentLink1URL: http://www.national.com/ds/LM/LMZ14202.pdf; ComponentLink2Description: LMZ14202 Web Page; ComponentLink2URL: http://www.national.com/pf/LM/LMZ14202.html; ComponentLink3Description: TZA07A Package Page; ComponentLink3URL: http://www.national.com/packaging/folders/tza07a.html
footprint TZA07A_V (D2-PAK, 8-Leads, Body 9.9x10.2mm, Pitch 1.27mm, Lead Span 13.8mm, NSC Recommended)
pins: 1 VIN (in), 2 RON, 3 EN (in), 4 GND (power), 5 SS, 6 FB (in), 7 VOUT (out), 8 EP

## LMZ14202TZE-ADJ/NOPB
designator U?
2A SIMPLE SWITCHER® Power Module with 42V Maximum Input, 7 pin TO-PMOD; PartNumber: LMZ14202TZE-ADJ/NOPB; Manufacturer: National Semiconductor; PackageTopMarking: NSUZXYTTE#*LMZ14202*TZ-ADJ; PowerWise: N; Published: 16-Nov-2010; DatasheetVersion: Jun-2010; PackageVersion: revC, 2009; PackageReference: TZA07A; Publisher: Altium Limited; PackageDescription: TO-PMOD-7, 10.16 x 13.77 x 4.57 mm Body, 7 Lead, 1.27mm Pitch, Surface Mount; Supplier 1: Digi-Key; Supplier Part Number 1: LMZ14202TZE-ADJ/NOPB-ND; Supplier 2: Farnell; Supplier Part Number 2: 1821762; RoHS: Y; PinCount: 7; CompType: Switcher; ComponentLink1Description: LMZ14202 Datasheet; ComponentLink1URL: http://www.national.com/ds/LM/LMZ14202.pdf; ComponentLink2Description: LMZ14202 Web Page; ComponentLink2URL: http://www.national.com/pf/LM/LMZ14202.html; ComponentLink3Description: TZA07A Package Page; ComponentLink3URL: http://www.national.com/packaging/folders/tza07a.html
footprint TZA07A_V (D2-PAK, 8-Leads, Body 9.9x10.2mm, Pitch 1.27mm, Lead Span 13.8mm, NSC Recommended)
pins: 1 VIN (in), 2 RON, 3 EN (in), 4 GND (power), 5 SS, 6 FB (in), 7 VOUT (out), 8 EP

## LMZ14202TZX-ADJ/NOPB
designator U?
2A SIMPLE SWITCHER® Power Module with 42V Maximum Input, 7 pin TO-PMOD; PartNumber: LMZ14202TZX-ADJ/NOPB; Manufacturer: National Semiconductor; PackageTopMarking: NSUZXYTTE#*LMZ14202*TZ-ADJ; PowerWise: Y; Published: 16-Nov-2010; DatasheetVersion: Jun-2010; PackageVersion: revC, 2009; PackageReference: TZA07A; Publisher: Altium Limited; PackageDescription: TO-PMOD-7, 10.16 x 13.77 x 4.57 mm Body, 7 Lead, 1.27mm Pitch, Surface Mount; Supplier 1: Digi-Key; Supplier Part Number 1: LMZ14202TZX-ADJ-ND; RoHS: Y; PinCount: 7; CompType: Switcher; ComponentLink1Description: LMZ14202 Datasheet; ComponentLink1URL: http://www.national.com/ds/LM/LMZ14202.pdf; ComponentLink2Description: LMZ14202 Web Page; ComponentLink2URL: http://www.national.com/pf/LM/LMZ14202.html; ComponentLink3Description: TZA07A Package Page; ComponentLink3URL: http://www.national.com/packaging/folders/tza07a.html
footprint TZA07A_V (D2-PAK, 8-Leads, Body 9.9x10.2mm, Pitch 1.27mm, Lead Span 13.8mm, NSC Recommended)
pins: 1 VIN (in), 2 RON, 3 EN (in), 4 GND (power), 5 SS, 6 FB (in), 7 VOUT (out), 8 EP

## LMZ14203EXTTZ/NOPB
designator U?
3A SIMPLE SWITCHER® Power Module with 42V Maximum Input Voltage for Military and Rugged Applications, 7 pin TO-PMOD; PartNumber: LMZ14203EXTTZ/NOPB; Manufacturer: National Semiconductor; PackageTopMarking: NSUZXYTTE#*LMZ14203*EXT; PowerWise: Y; Published: 16-Nov-2010; DatasheetVersion: Aug-2010; PackageVersion: revC, 2009; PackageReference: TZA07A; Publisher: Altium Limited; PackageDescription: TO-PMOD-7, 10.16 x 13.77 x 4.57 mm Body, 7 Lead, 1.27mm Pitch, Surface Mount; Supplier 1: Digi-Key; Supplier Part Number 1: LMZ14203EXTTZ/NOPBTR-ND; Supplier 2: Digi-Key; Supplier Part Number 2: LMZ14203EXTTZ/NOPBCT-ND; Supplier 3: Digi-Key; Supplier Part Number 3: LMZ14203EXTTZ/NOPBDKR-ND; RoHS: Y; PinCount: 7; CompType: Switcher; ComponentLink1Description: LMZ14203EXT Datasheet; ComponentLink1URL: http://www.national.com/ds/LM/LMZ14203EXT.pdf; ComponentLink2Description: LMZ14203EXT Web Page; ComponentLink2URL: http://www.national.com/pf/LM/LMZ14203EXT.html; ComponentLink3Description: TZA07A Package Page; ComponentLink3URL: http://www.national.com/packaging/folders/tza07a.html
footprint TZA07A_V (D2-PAK, 8-Leads, Body 9.9x10.2mm, Pitch 1.27mm, Lead Span 13.8mm, NSC Recommended)
pins: 1 VIN (in), 2 RON, 3 EN (in), 4 GND (power), 5 SS, 6 FB (in), 7 VOUT (out), 8 EP

## LMZ14203EXTTZE/NOPB
designator U?
3A SIMPLE SWITCHER® Power Module with 42V Maximum Input Voltage for Military and Rugged Applications, 7 pin TO-PMOD; PartNumber: LMZ14203EXTTZE/NOPB; Manufacturer: National Semiconductor; PackageTopMarking: NSUZXYTTE#*LMZ14203*EXT; PowerWise: Y; Published: 16-Nov-2010; DatasheetVersion: Aug-2010; PackageVersion: revC, 2009; PackageReference: TZA07A; Publisher: Altium Limited; PackageDescription: TO-PMOD-7, 10.16 x 13.77 x 4.57 mm Body, 7 Lead, 1.27mm Pitch, Surface Mount; Supplier 1: Digi-Key; Supplier Part Number 1: LMZ14203EXTTZE/NOPB-ND; RoHS: Y; PinCount: 7; CompType: Switcher; ComponentLink1Description: LMZ14203EXT Datasheet; ComponentLink1URL: http://www.national.com/ds/LM/LMZ14203EXT.pdf; ComponentLink2Description: LMZ14203EXT Web Page; ComponentLink2URL: http://www.national.com/pf/LM/LMZ14203EXT.html; ComponentLink3Description: TZA07A Package Page; ComponentLink3URL: http://www.national.com/packaging/folders/tza07a.html
footprint TZA07A_V (D2-PAK, 8-Leads, Body 9.9x10.2mm, Pitch 1.27mm, Lead Span 13.8mm, NSC Recommended)
pins: 1 VIN (in), 2 RON, 3 EN (in), 4 GND (power), 5 SS, 6 FB (in), 7 VOUT (out), 8 EP

## LMZ14203EXTTZX/NOPB
designator U?
3A SIMPLE SWITCHER® Power Module with 42V Maximum Input Voltage for Military and Rugged Applications, 7 pin TO-PMOD; PartNumber: LMZ14203EXTTZX/NOPB; Manufacturer: National Semiconductor; PackageTopMarking: NSUZXYTTE#*LMZ14203*EXT; PowerWise: Y; Published: 16-Nov-2010; DatasheetVersion: Aug-2010; PackageVersion: revC, 2009; PackageReference: TZA07A; Publisher: Altium Limited; PackageDescription: TO-PMOD-7, 10.16 x 13.77 x 4.57 mm Body, 7 Lead, 1.27mm Pitch, Surface Mount; Supplier 1: Digi-Key; Supplier Part Number 1: LMZ14203EXTTZX/NOPB-ND; RoHS: Y; PinCount: 7; CompType: Switcher; ComponentLink1Description: LMZ14203EXT Datasheet; ComponentLink1URL: http://www.national.com/ds/LM/LMZ14203EXT.pdf; ComponentLink2Description: LMZ14203EXT Web Page; ComponentLink2URL: http://www.national.com/pf/LM/LMZ14203EXT.html; ComponentLink3Description: TZA07A Package Page; ComponentLink3URL: http://www.national.com/packaging/folders/tza07a.html
footprint TZA07A_V (D2-PAK, 8-Leads, Body 9.9x10.2mm, Pitch 1.27mm, Lead Span 13.8mm, NSC Recommended)
pins: 1 VIN (in), 2 RON, 3 EN (in), 4 GND (power), 5 SS, 6 FB (in), 7 VOUT (out), 8 EP

## LMZ14203TZ-ADJ/NOPB
designator U?
3A SIMPLE SWITCHER® Power Module with 42V Maximum Input Voltage, 7-pin TO-PMOD, Pb-Free; PartNumber: LMZ14203TZ-ADJ/NOPB; Manufacturer: National Semiconductor; PackageTopMarking: NSUZXYTTE#*LMZ14203*TZ-ADJ; PowerWise: Y; Published: 25-Jan-2010; DatasheetVersion: Jan-2010; PackageVersion: revC, 2009; PackageReference: TZA07A; Publisher: Altium Limited; PackageDescription: TO-PMOD-7, 10.16 x 13.77 x 4.57 mm Body, 7 Lead, 1.27mm Pitch, Surface Mount; Supplier 1: Digi-Key; Supplier Part Number 1: LMZ14203TZ-ADJTR-ND; Supplier 2: Digi-Key; Supplier Part Number 2: LMZ14203TZ-ADJCT-ND; Supplier 3: Digi-Key; Supplier Part Number 3: LMZ14203TZ-ADJDKR-ND; Supplier 4: Farnell; Supplier Part Number 4: 1780285; RoHS: Y; PinCount: 8; CompType: Switcher; ComponentLink1Description: LMZ14203 Datasheet; ComponentLink1URL: http://www.national.com/ds/LM/LMZ14203.pdf; ComponentLink2Description: LMZ14203 Web Page; ComponentLink2URL: http://www.national.com/pf/LM/LMZ14203.html; ComponentLink3Description: TZA07A Package Page; ComponentLink3URL: http://www.national.com/packaging/folders/tza07a.html
footprint TZA07A_V (D2-PAK, 8-Leads, Body 9.9x10.2mm, Pitch 1.27mm, Lead Span 13.8mm, NSC Recommended)
pins: 1 VIN (in), 2 RON, 3 EN (in), 4 GND (power), 5 SS, 6 FB (in), 7 VOUT (out), 8 EP

## LMZ14203TZE-ADJ/NOPB
designator U?
3A SIMPLE SWITCHER® Power Module with 42V Maximum Input, 7 pin TO-PMOD, Pb-Free; PartNumber: LMZ14203TZE-ADJ/NOPB; Manufacturer: National Semiconductor; PackageTopMarking: NSUZXYTTE#*LMZ14203*TZ-ADJ; PowerWise: N; Published: 1-Mar-2010; DatasheetVersion: Jan-2010; PackageVersion: revC, 2009; PackageReference: TZA07A; Publisher: Altium Limited; PackageDescription: TO-PMOD-7, 10.16 x 13.77 x 4.57 mm Body, 7 Lead, 1.27mm Pitch, Surface Mount; Supplier 1: Digi-Key; Supplier Part Number 1: LMZ14203TZE-ADJ/NOPB-ND; RoHS: Y; PinCount: 7; CompType: Switcher; ComponentLink1Description: LMZ14203 Datasheet; ComponentLink1URL: http://www.national.com/ds/LM/LMZ14203.pdf; ComponentLink2Description: LMZ14203 Web Page; ComponentLink2URL: http://www.national.com/pf/LM/LMZ14203.html; ComponentLink3Description: TZA07A Package Page; ComponentLink3URL: http://www.national.com/packaging/folders/tza07a.html
footprint TZA07A_V (D2-PAK, 8-Leads, Body 9.9x10.2mm, Pitch 1.27mm, Lead Span 13.8mm, NSC Recommended)
pins: 1 VIN (in), 2 RON, 3 EN (in), 4 GND (power), 5 SS, 6 FB (in), 7 VOUT (out), 8 EP

## LMZ14203TZX-ADJ/NOPB
designator U?
3A SIMPLE SWITCHER® Power Module with 42V Maximum Input Voltage, 7-pin TO-PMOD, Pb-Free; PartNumber: LMZ14203TZX-ADJ/NOPB; Manufacturer: National Semiconductor; PackageTopMarking: NSUZXYTTE#*LMZ14203*TZ-ADJ; PowerWise: Y; Published: 25-Jan-2010; DatasheetVersion: Jan-2010; PackageVersion: revC, 2009; PackageReference: TZA07A; Publisher: Altium Limited; PackageDescription: TO-PMOD-7, 10.16 x 13.77 x 4.57 mm Body, 7 Lead, 1.27mm Pitch, Surface Mount; Supplier 1: Digi-Key; Supplier Part Number 1: LMZ14203TZX-ADJ-ND; Supplier 2: Farnell; Supplier Part Number 2: 1780286; RoHS: Y; PinCount: 8; CompType: Switcher; ComponentLink1Description: LMZ14203 Datasheet; ComponentLink1URL: http://www.national.com/ds/LM/LMZ14203.pdf; ComponentLink2Description: LMZ14203 Web Page; ComponentLink2URL: http://www.national.com/pf/LM/LMZ14203.html; ComponentLink3Description: TZA07A Package Page; ComponentLink3URL: http://www.national.com/packaging/folders/tza07a.html
footprint TZA07A_V (D2-PAK, 8-Leads, Body 9.9x10.2mm, Pitch 1.27mm, Lead Span 13.8mm, NSC Recommended)
pins: 1 VIN (in), 2 RON, 3 EN (in), 4 GND (power), 5 SS, 6 FB (in), 7 VOUT (out), 8 EP

## LP3906SQ-DJXI
designator U?
Dual High-Current Step-Down DC/DC and Dual Linear Regulator with I2C Compatible Interface, 24-pin LLP; PartNumber: LP3906SQ-DJXI; Manufacturer: National Semiconductor; PackageTopMarking: NS*UZXYTT*06-DJXI; PowerWise: Y; CompType: Switcher; Published: 4-Dec-2008; DatasheetVersion: Aug-2010; PackageVersion: revA, Oct-2003; PackageReference: SQA24B; Publisher: Altium Limited; PackageDescription: LLP, Plastic, Quad, 5 x 4 x 0.8mm Body, 24 Lead, 0.5mm Pitch, No Pullback; RoHS: Y; PinCount: 24; Code_JEDEC: MO-220-WGHD-1; ComponentLink1Description: LP3906 Datasheet; ComponentLink1URL: http://www.national.com/ds/LP/LP3906.pdf; ComponentLink2Description: LP3906 Web Page; ComponentLink2URL: http://www.national.com/pf/LP/LP3906.html; ComponentLink3Description: SQA24B Package Page; ComponentLink3URL: http://www.national.com/packaging/folders/sqa24b.html
footprint SQA24B (QFN, 24-Leads, Body 5x4mm, Pitch 0.5mm, NSC Recommended)
pins: 1 VIN2 (power), 2 SW2 (power), 3 GND_SW2 (power), 4 GND_C (power), 5 GND_SW1 (power), 6 SW1 (power), 7 VIN1 (power), 8 SDA (io), 9 SCL (in), 10 EN_T (in), 11 FB1 (in), 12 AVDD (power), 13 VINLDO1 (power), 14 LDO1 (power), 15 ENLDO1 (in), 16 ENLDO2 (in), 17 GND_L (power), 18 LDO2 (power), 19 VINLDO2 (power), 20 VINLDO12 (power), 21 FB2 (in), 22 ENSW1 (in), 23 SYNC, 24 ENSW2 (in), 25 DAP (power)